# Altium schematic symbol library Crystals.SchLib: 5 symbols
Pins are listed as number, name and electrical type; pins without a type are passive.

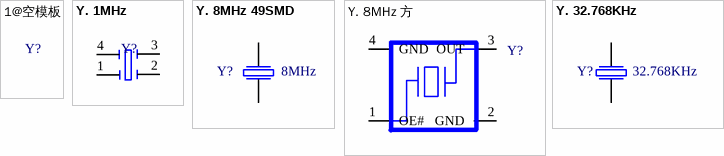
[diagram p0: symbols 1@空模板 to Y. 32.768KHz]

## 1@空模板
designator Y?  (value not drawn)
A.元件编号: *; B.元件名称: *; C.元件类型: *; D.元件型号: *; E.封装规格: *; F.阻值(Ω)/容值(μF): *; G.电压: *; H.精度: *; I.焊盘数量: *; J.品牌产地: *; 单价/元: *; 原创: *; 备注: *

## Y. 1MHz
designator Y?  (value not drawn)
±20ppm 3.3V -40~85℃; A.元件编号: *; B.元件名称: *; C.元件类型: *; D.元件型号: *; E.封装规格: *; F.阻值(Ω)/容值(μF): *; G.电压: *; H.精度: *; I.焊盘数量: *; J.品牌产地: *; 单价/元: *; 原创: *; 备注: *
footprint SMD-5032_4P (3D模型只是个大概)
pins: 1 TRI, 2 GND, 3 OUTPUT, 4 VDD

## Y. 8MHz 49SMD
designator Y?  value 8MHz  (hidden comment: Y. 8MHz 49SMD)
贴片晶振，49SMD， 8MHz，HC-49SMD，YXC; A.元件编号: C12674; 备注: 立创非可贴片元器件; B.元件名称: HC-49SMD 8MHZ 20PF 20PPM; D.元件型号: X49SM8MSD2SC; I.焊盘数量: 2; J.品牌产地: YXC; 单价/元（大批量）: 0.366; C.元件类别: 49SMD; E.封装规格: HC-49SMD; F.阻值(Ω)/容值(uF): *; G.电压: *; H.精度: *
footprint XTAL-49S SMD
pins: 1, 2

## Y. 8MHz 方
designator Y?  (value not drawn)
SMD-5032_4P; A.元件编号: *; B.元件名称: *; C.元件类型: *; D.元件型号: *; E.封装规格: *; F.阻值(Ω)/容值(μF): *; G.电压: *; H.精度: *; I.焊盘数量: *; J.品牌产地: *; 单价/元: *; 原创: *; 备注: *
footprint SMD-5032_4P (3D模型只是个大概)
pins: 1 OE#, 2 GND, 3 OUT, 4 GND

## Y. 32.768KHz
designator Y?  value 32.768KHz  (hidden comment: Y. 32.768KHz)
贴片晶振，SMD3215，32.768KHz，SMD3215,EPSON(爱普生)，Q13FC1350000400; 备注: 立创非可贴片元器件; B.元件名称: 32.768KHz ±20ppm 12.5pF; C.元件类别: 贴片晶振; A.元件编号: C32346; I.焊盘数量: 2; 单价/元（大批量）: 0.65; J.品牌产地: EPSON(爱普生); E.封装规格: SMD-3215; D.元件型号: Q13FC1350000400; F.阻值(Ω)/容值(uF): *; H.精度: *; G.电压: *
footprint XTAL-3215
pins: 1, 2